# EAGLE library part PIC16F1527 (library Fitch_Eagle_Library)
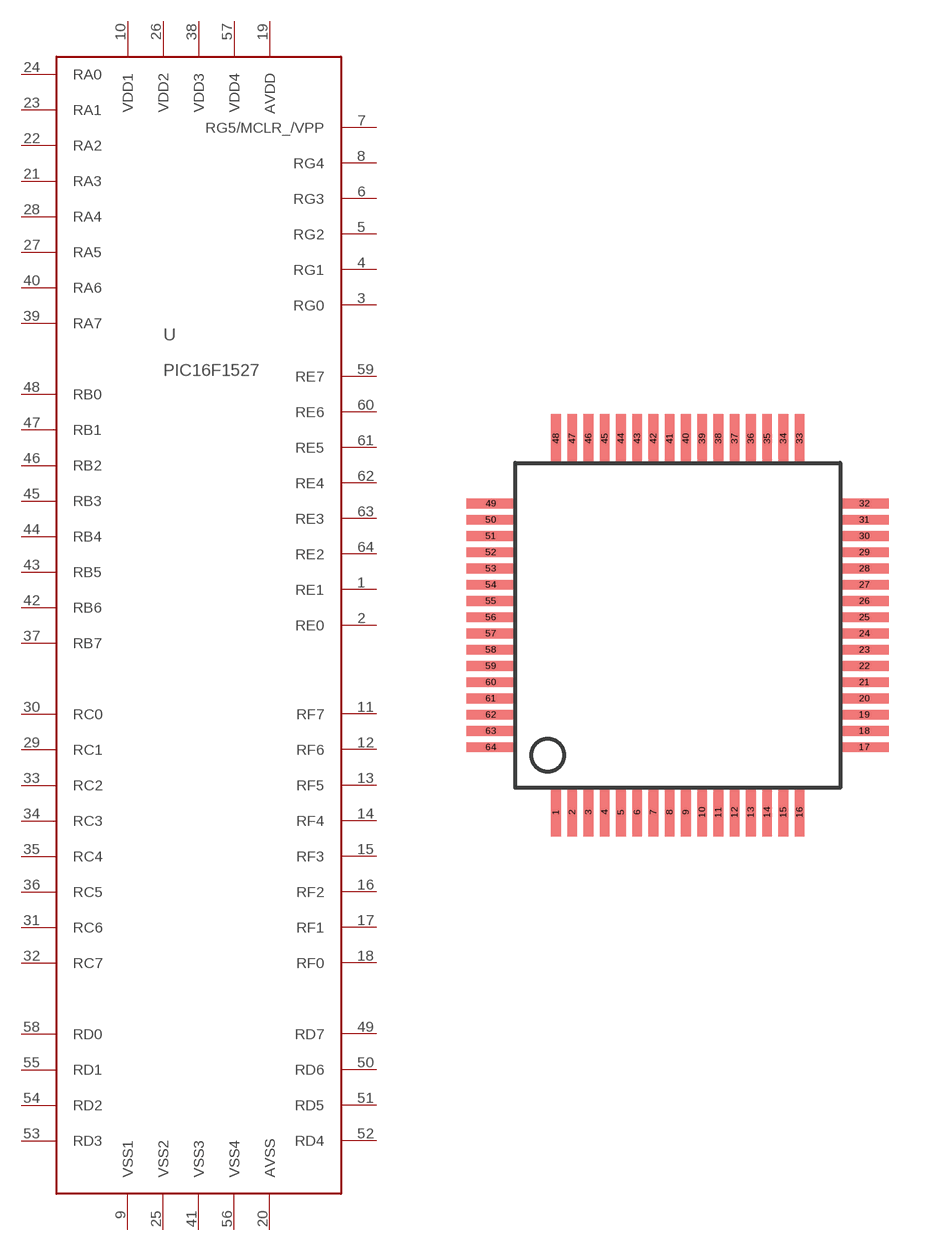
[diagram p21: symbol with the pads of TQFP64; footprint TQFP64]

Designator prefix -

## PIC16F1527PIC16F1527  [TQFP64]
1  RE1
2  RE0
3  RG0
4  RG1
5  RG2
6  RG3
7  RG5/MCLR_/VPP
8  RG4
9  VSS1
10  VDD1
11  RF7
12  RF6
13  RF5
14  RF4
15  RF3
16  RF2
17  RF1
18  RF0
19  AVDD
20  AVSS
21  RA3
22  RA2
23  RA1
24  RA0
25  VSS2
26  VDD2
27  RA5
28  RA4
29  RC1
30  RC0
31  RC6
32  RC7
33  RC2
34  RC3
35  RC4
36  RC5
37  RB7
38  VDD3
39  RA7
40  RA6
41  VSS3
42  RB6
43  RB5
44  RB4
45  RB3
46  RB2
47  RB1
48  RB0
49  RD7
50  RD6
51  RD5
52  RD4
53  RD3
54  RD2
55  RD1
56  VSS4
57  VDD4
58  RD0
59  RE7
60  RE6
61  RE5
62  RE4
63  RE3
64  RE2

## Footprint TQFP64 (pad centres in mm)
smd 0.3 x 1.5: 1 -3.75,-5.75; 2 -3.25,-5.75; 3 -2.75,-5.75; 4 -2.25,-5.75; 5 -1.75,-5.75; 6 -1.25,-5.75; 7 -0.75,-5.75; 8 -0.25,-5.75; 9 0.25,-5.75; 10 0.75,-5.75; 11 1.25,-5.75; 12 1.75,-5.75; 13 2.25,-5.75; 14 2.75,-5.75; 15 3.25,-5.75; 16 3.75,-5.75; 33 3.75,5.75; 34 3.25,5.75; 35 2.75,5.75; 36 2.25,5.75; 37 1.75,5.75; 38 1.25,5.75; 39 0.75,5.75; 40 0.25,5.75; 41 -0.25,5.75; 42 -0.75,5.75; 43 -1.25,5.75; 44 -1.75,5.75; 45 -2.25,5.75; 46 -2.75,5.75; 47 -3.25,5.75; 48 -3.75,5.75
smd 1.5 x 0.3: 17 5.75,-3.75; 18 5.75,-3.25; 19 5.75,-2.75; 20 5.75,-2.25; 21 5.75,-1.75; 22 5.75,-1.25; 23 5.75,-0.75; 24 5.75,-0.25; 25 5.75,0.25; 26 5.75,0.75; 27 5.75,1.25; 28 5.75,1.75; 29 5.75,2.25; 30 5.75,2.75; 31 5.75,3.25; 32 5.75,3.75; 49 -5.75,3.75; 50 -5.75,3.25; 51 -5.75,2.75; 52 -5.75,2.25; 53 -5.75,1.75; 54 -5.75,1.25; 55 -5.75,0.75; 56 -5.75,0.25; 57 -5.75,-0.25; 58 -5.75,-0.75; 59 -5.75,-1.25; 60 -5.75,-1.75; 61 -5.75,-2.25; 62 -5.75,-2.75; 63 -5.75,-3.25; 64 -5.75,-3.75